# Altium schematic symbol library sch_lib_own_.SchLib: 14 symbols
Pins are listed as number, name and electrical type; pins without a type are passive.

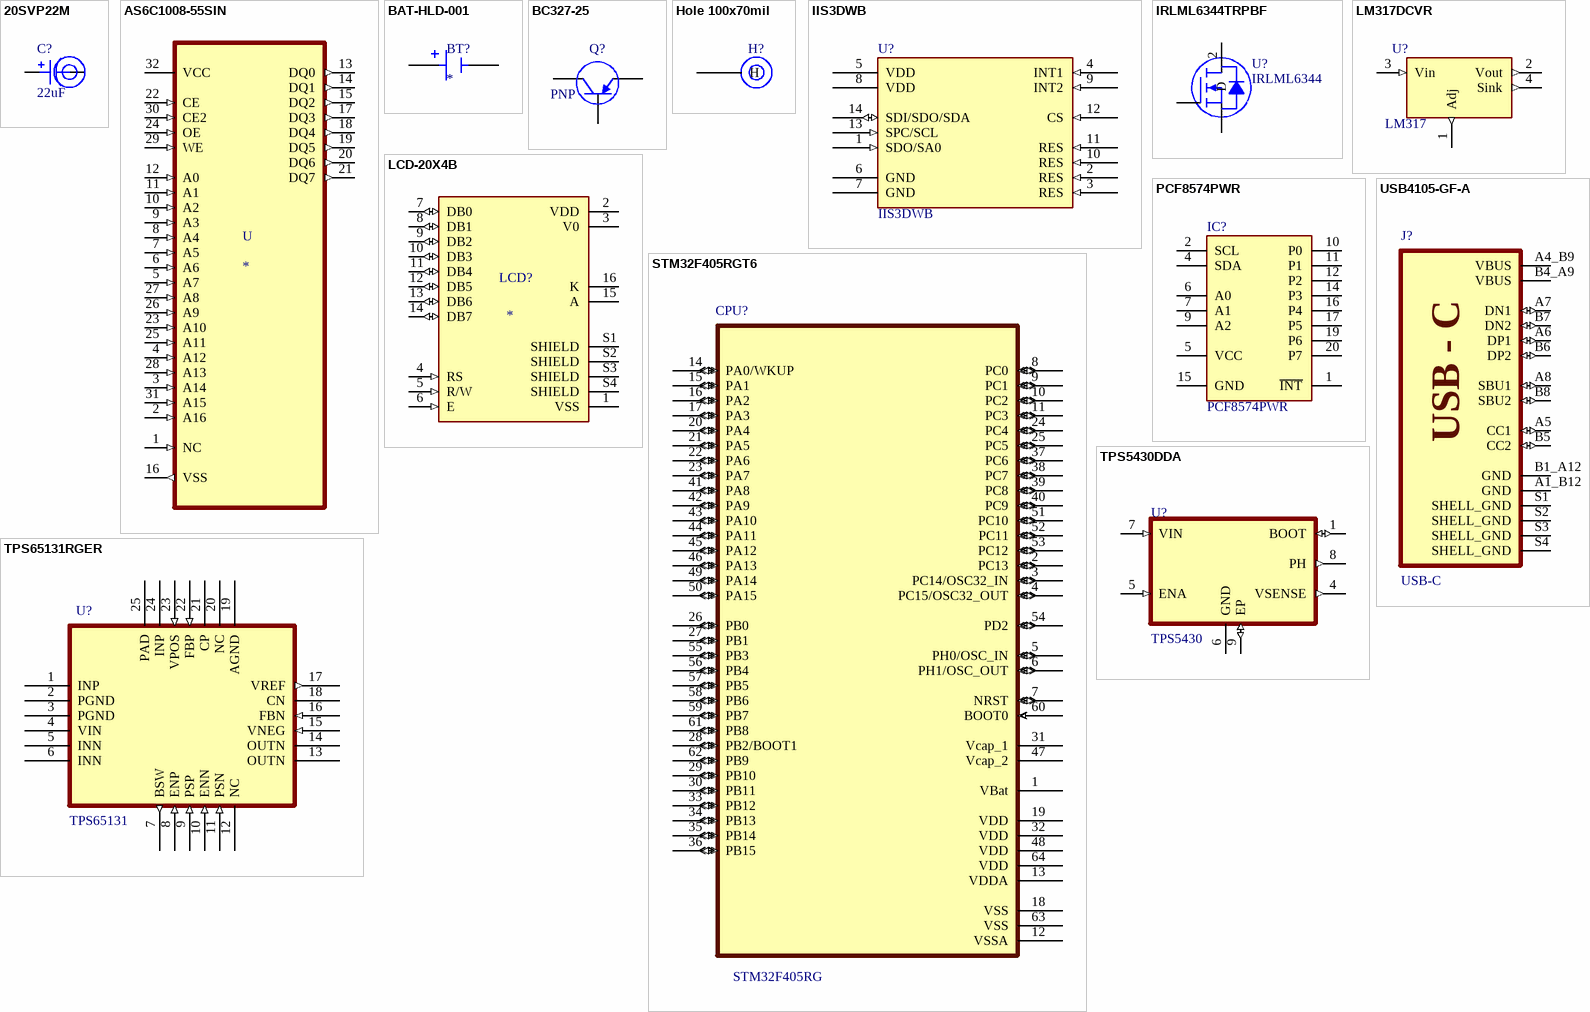
[diagram p0: symbols 20SVP22M to USB4105-GF-A]

## 20SVP22M
designator C?, comment 22uF
CAP POLYMER 4U7F 20% 16V SMD; Part Number: 20SVP22M; Manufacturer: Panasonic Electronic Components; TemperatureRange: -55C ~ 105C; Voltage: 20V; Ripple Current: 1.45A; Lifetime @ Temp: 2000 Hrs @ 105C; Value: 22uF; PartId: 7510; Supplier 1: Digi-Key; Supplier Part Number 1: P16492TR-ND; ComponentLink1Description: Datasheet; ComponentLink1URL: http://industrial.panasonic.com/www-cgi/jvcr13pz.cgi?E+CI+4+AAB8008+20SVP22M+8+WW; ComponentLink2Description: Digi-Key listing; ComponentLink2URL: http://digikey.com/product-detail/en/20SVP22M/P16492TR-ND/4204824; Tolerance: 20%; Price: 0.605; Type: -; Device Package: Radial, Can - SMD; Impedance: -
footprint CAP ALUM 6.6MM (Aluminum Electrolytic Capacitor, Body 6.60x6.60x7.70mm, IPC Low Density)
pins: 1, 2

## AS6C1008-55SIN
designator U
SRAM - Asynchronous Memory IC 1Mb _128K x 8_ Parallel 55ns 32-SOP; MP: AS6C1008-55SIN; MF: Alliance Memory,; Price: None; Package: SOP-32 Alliance Memory; Availability: Unavailable; SnapEDA_Link: https://www.snapeda.com/parts/AS6C1008-55SIN/Alliance%20Memory,%20Inc./view-part/31744/?ref=snap; Value: *
footprint SOIC127P1407X299-32N (Footprint not found)
footprint SOIC127P1407X299-32N
pins: 1 NC (in), 2 A16 (in), 3 A14 (in), 4 A12 (in), 5 A7 (in), 6 A6 (in), 7 A5 (in), 8 A4 (in), 9 A3 (in), 10 A2 (in), 11 A1 (in), 12 A0 (in), 13 DQ0 (out), 14 DQ1 (out), 15 DQ2 (out), 16 VSS (out), 17 DQ3 (out), 18 DQ4 (out), 19 DQ5 (out), 20 DQ6 (out), 21 DQ7 (out), 22 CE (in), 23 A10 (in), 24 OE (in), 25 A11 (in), 26 A9 (in), 27 A8 (in), 28 A13 (in), 29 WE (in), 30 CE2 (in), 31 A15 (in), 32 VCC (power)

## BAT-HLD-001
designator BT?
Battery Retainer Coin, 20.0mm 1 Cell SMD (SMT) Tab; MP: BAT-HLD-001; Value: *; Package: None; Availability: Unavailable; Price: None
footprint BAT_BAT-HLD-001
pins: N1 NEG, P1 POS, P2 POS

## BC327-25
designator Q?, comment PNP
PNP Bipolar Transistor; Published: 8-Jun-2000; LatestRevisionDate: 29-May-2009; LatestRevisionNote: IPC-7351 Footprint Added.; PackageVersion: Aug-1999; PackageReference: SOT-23B; Publisher: Altium Limited; PackageDescription: 3-Pin SOT-23 Package 0.95 mm Pitch, 2.4 mm Lead Span
footprint SOT-23B_N (SOT23, 3-Leads, Body 2.9x1.3mm, Pitch 0.95mm, Lead Span 2.4mm, IPC Medium Density)
footprint SOT-23B_L (SOT23, 3-Leads, Body 2.9x1.3mm, Pitch 0.95mm, Lead Span 2.4mm, IPC High Density)
footprint SOT-23B_M (SOT23, 3-Leads, Body 2.9x1.3mm, Pitch 0.95mm, Lead Span 2.4mm, IPC Low Density)
simulation model PNP
signal-integrity model PNP
footprint SOT-23B_N (SOT23, 3-Leads, Body 2.9x1.3mm, Pitch 0.95mm, Lead Span 2.4mm, IPC Medium Density)
pins: 1 C, 2 B, 3 E

## Hole 100x70mil
designator H?  (value not drawn)
100x70mil
footprint Hole 100x70mil
pins: 1 H (power)

## IIS3DWB
designator U?
3-axis digital vibration sensor
footprint PQFN50P250X300X86-14N
pins: 1 SDO/SA0 (in), 2 RES (in), 3 RES (in), 4 INT1 (in), 5 VDD, 6 GND, 7 GND, 8 VDD, 9 INT2 (in), 10 RES (in), 11 RES (in), 12 CS (in), 13 SPC/SCL (in), 14 SDI/SDO/SDA (io)

## IRLML6344TRPBF
designator U?, comment IRLML6344
N-Channel 30V 5A _Ta_ 1.3W _Ta_ Surface Mount Micro3â„¢/SOT-23; MF: Infineon Technologies; MP: IRLML6344TRPBF; Package: SOT-23 Infineon; Value: *; Price: None; Availability: Unavailable; SnapEDA_Link: https://www.snapeda.com/parts/IRLML6344TRPBF/Infineon%20Technologies/view-part/1786730/?ref=snap
footprint SOT95P240X112-3N
pins: 1 G, 2 D, 3 S

## LCD-20X4B
designator LCD?
Display Development Tools 20X4 CHARACTER BLUE LCD W/BACKLIGHT; MP: LCD-20X4B; Value: *; Availability: Unavailable; Price: None; Package: None
footprint LCD_LCD-20X4B
pins: 1 VSS (power), 2 VDD (power), 3 V0 (power), 4 RS (in), 5 R/W (in), 6 E (in), 7 DB0 (io), 8 DB1 (io), 9 DB2 (io), 10 DB3 (io), 11 DB4 (io), 12 DB5 (io), 13 DB6 (io), 14 DB7 (io), 15 A, 16 K, S1 SHIELD, S2 SHIELD, S3 SHIELD, S4 SHIELD

## LM317DCVR
designator U?, comment LM317
Adjustable voltage regulator, 1.5A, output range 1.25 - 37 V
footprint TI SOT-223 DCY (SOT223, 4-Leads, Body 6.50x7.00mm (avg), Pitch 2.30mm, IPC Medium Density)
pins: 1 Adj (out), 2 Vout (out), 3 Vin (in), 4 Sink (out)

## PCF8574PWR
designator IC?
Integrated Circuit; Manufacturer_Name: Texas Instruments; Datasheet Link: http://www.ti.com/lit/ds/symlink/pcf8574.pdf; Height: 1.2mm; Manufacturer_Part_Number: PCF8574PWR; Mouser Part Number: 595-PCF8574PWR; Mouser Price/Stock: https://www.mouser.co.uk/ProductDetail/Texas-Instruments/PCF8574PWR?qs=X1HXWTtiZ0T3gnyuO%2Fq4CA%3D%3D; Arrow Part Number: PCF8574PWR; Arrow Price/Stock: https://www.arrow.com/en/products/pcf8574pwr/texas-instruments?region=nac
footprint SOP65P640X120-20N
pins: 1 ~{INT}, 2 SCL, 4 SDA, 5 VCC, 6 A0, 7 A1, 9 A2, 10 P0, 11 P1, 12 P2, 14 P3, 15 GND, 16 P4, 17 P5, 19 P6, 20 P7

## STM32F405RGT6
designator CPU?, comment STM32F405RG
CPU
footprint LQF64
pins: 1 VBat, 2 PC13 (io), 3 PC14/OSC32_IN (io), 4 PC15/OSC32_OUT (io), 5 PH0/OSC_IN (io), 6 PH1/OSC_OUT (io), 7 NRST (io), 8 PC0 (io), 9 PC1 (io), 10 PC2 (io), 11 PC3 (io), 12 VSSA (power), 13 VDDA, 14 PA0/WKUP (io), 15 PA1 (io), 16 PA2 (io), 17 PA3 (io), 18 VSS, 19 VDD, 20 PA4 (io), 21 PA5 (io), 22 PA6 (io), 23 PA7 (io), 24 PC4 (io), 25 PC5 (io), 26 PB0 (io), 27 PB1 (io), 28 PB2/BOOT1 (io), 29 PB10 (io), 30 PB11 (io), 31 Vcap_1 (power), 32 VDD, 33 PB12 (io), 34 PB13 (io), 35 PB14 (io), 36 PB15 (io), 37 PC6 (io), 38 PC7 (io), 39 PC8 (io), 40 PC9 (io), 41 PA8 (io), 42 PA9 (io), 43 PA10 (io), 44 PA11 (io), 45 PA12 (io), 46 PA13 (io), 47 Vcap_2, 48 VDD, 49 PA14 (io), 50 PA15 (io), 51 PC10 (io), 52 PC11 (io), 53 PC12 (io), 54 PD2 (io), 55 PB3 (io), 56 PB4 (io), 57 PB5 (io), 58 PB6 (io), 59 PB7 (io), 60 BOOT0 (in), 61 PB8 (io), 62 PB9 (io), 63 VSS, 64 VDD

## TPS5430DDA
designator U?, comment TPS5430
CONVERTER 5.5V-36 to 5.5V; MF: Texas Instruments; MP: TPS5430DDA; Availability: Unavailable; Mouser-Purchase-URL: https://snapeda.com/shop?store=Mouser&id=226174; Texas_Instruments-Purchase-URL: https://snapeda.com/shop?store=Texas+Instruments&id=226174; Package: HSOIC-8 Texas Instruments; Price: None; SnapEDA_Link: https://www.snapeda.com/parts/TPS5430DDA/Texas%20Instruments/view-part/226174/?ref=snap; DigiKey-Purchase-URL: https://snapeda.com/shop?store=DigiKey&id=226174; Value: *
footprint VREG_LM5017MR/NOPB
pins: 1 BOOT (io), 4 VSENSE (out), 5 ENA (in), 6 GND (power), 7 VIN (in), 8 PH (out), 9 EP (io)

## TPS65131RGER
designator U?, comment TPS65131
Split-Rail Converter with Dual, Positive and Negative Outputs (750mA typ); MF: Texas Instruments; MP: TPS65131RGER; Purchase-URL: https://pricing.snapeda.com/search/part/TPS65131RGER/?ref=eda; Package: QFN-24 Texas Instruments; Availability: In Stock; Check_prices: https://www.snapeda.com/parts/TPS65131RGER/Texas+Instruments/view-part/?ref=eda; Price: None; SnapEDA_Link: https://www.snapeda.com/parts/TPS65131RGER/Texas+Instruments/view-part/?ref=snap; Value: *
footprint VQFN24
pins: 1 INP (power), 2 PGND (power), 3 PGND (power), 4 VIN (power), 5 INN (power), 6 INN (power), 7 BSW (out), 8 ENP (in), 9 PSP (in), 10 ENN (in), 11 PSN (in), 12 NC, 13 OUTN (power), 14 OUTN (power), 15 VNEG (in), 16 FBN (in), 17 VREF (out), 18 CN, 19 AGND (power), 20 NC, 21 CP, 22 FBP (in), 23 VPOS (in), 24 INP (power), 25 PAD (power)

## USB4105-GF-A
designator J?, comment USB-C
USB-C (USB TYPE-C) USB 2.0 Receptacle Connector 24 (16+8 Dummy) Position Surface Mount, Right Angle; Through Hole; MP: USB4105-GF-A; Value: *; Availability: Unavailable; Price: None; Package: None
footprint GCT_USB4105-GF-A
pins: A1_B12 GND (power), A4_B9 VBUS (power), A5 CC1 (io), A6 DP1 (io), A7 DN1 (io), A8 SBU1 (io), B1_A12 GND (power), B4_A9 VBUS (power), B5 CC2 (io), B6 DP2 (io), B7 DN2 (io), B8 SBU2 (io), S1 SHELL_GND (power), S2 SHELL_GND (power), S3 SHELL_GND (power), S4 SHELL_GND (power)
text: USB - C